# Altium footprint library PcbLib1.PcbLib: 59 footprints (part 1 of 4)
Each footprint in its own frame and in the unit in brackets; x right, y up, seen from the top. Pads: shape width x height; smd on the part's side, far side on the other; paste and mask are expansions set on the pad; w line width, h text height; cw(c..) or ccw(c..) is an arc to the next point about the centre after c.
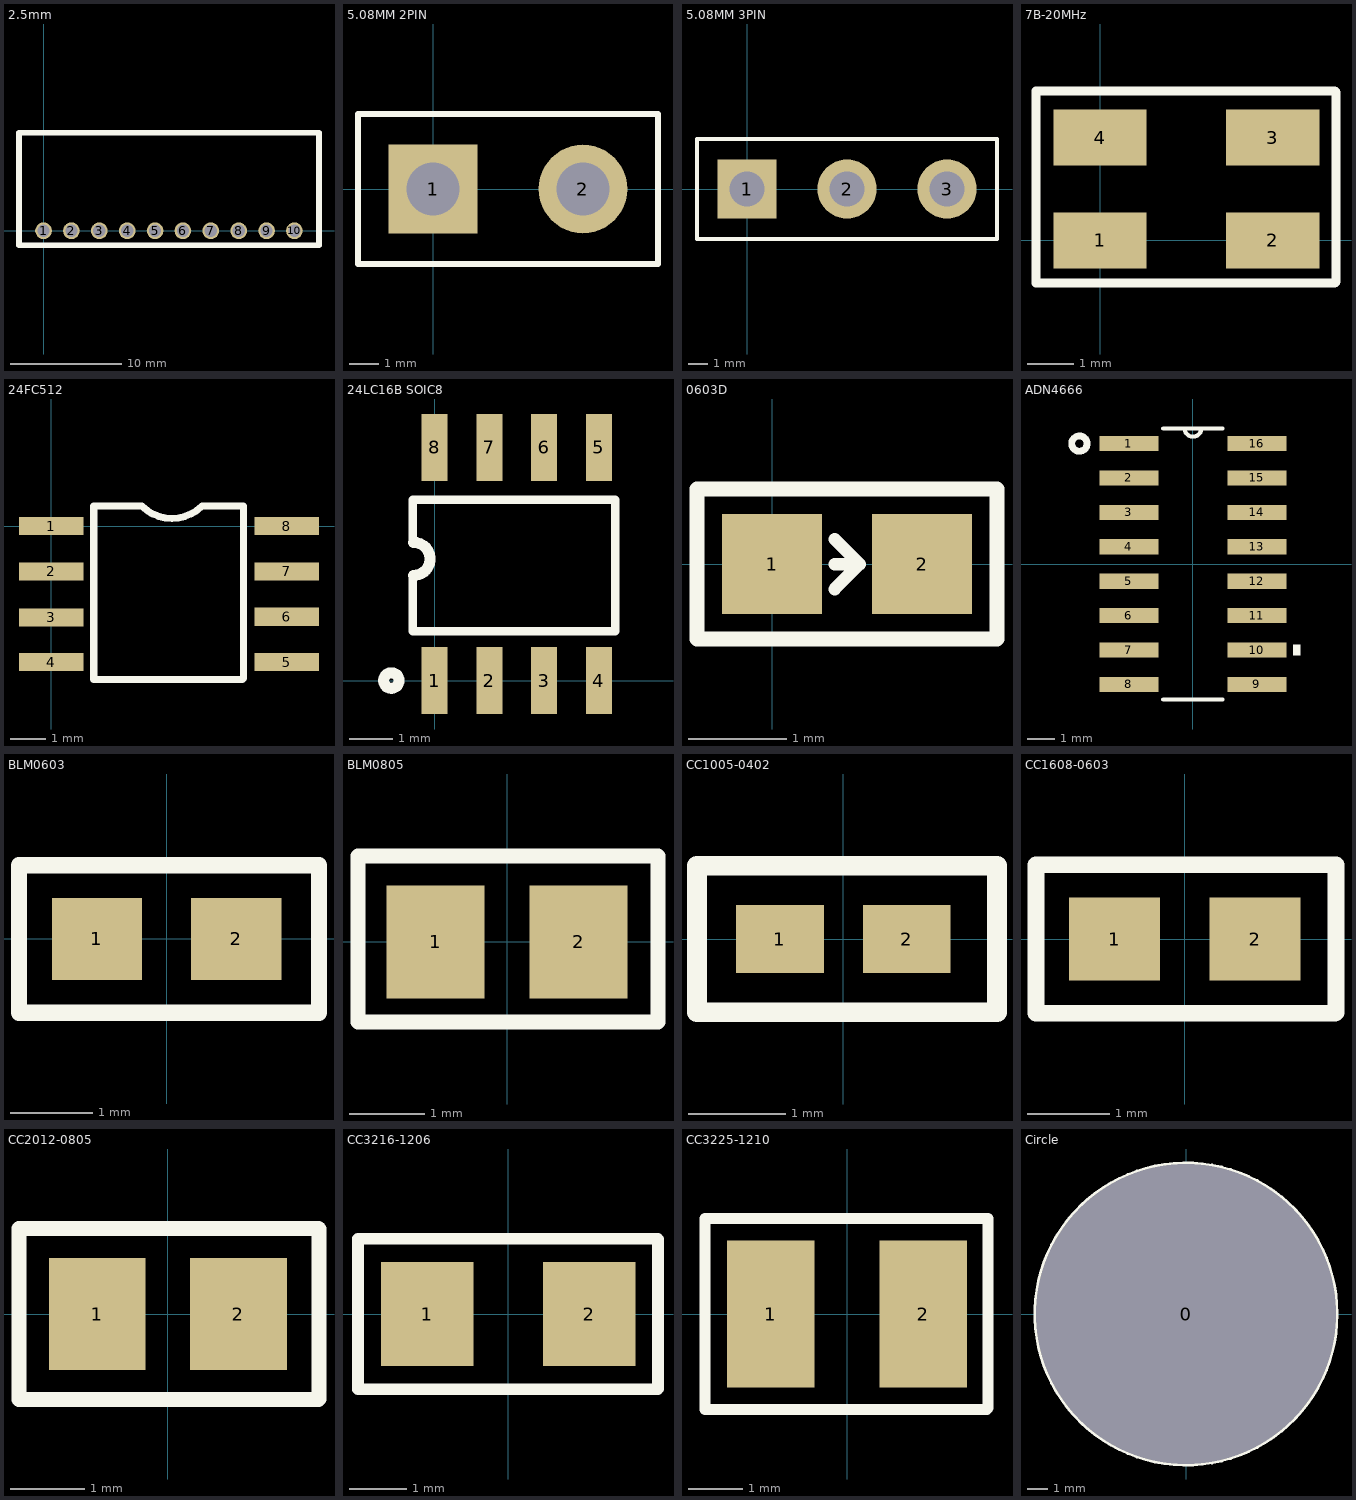
[diagram p0: the footprints below, top view; thin cyan lines are the x and y axes]

## 2.5mm [mm]
pads (10):
  round 1.5 hole 1.1: 1(0,0) 2(2.5,0) 3(5,0) 4(7.5,0) 5(10,0) 6(12.5,0) 7(15,0) 8(17.5,0) 9(20,0) 10(22.5,0)
Top Overlay:
  lines w0.508: -2.2,-1.3 24.7,-1.3 24.7,8.803 24.703,8.8 -2.2,8.8 -2.2,-1.3

## 5.08MM 2PIN [mm]
pads (2):
  rect 3x3 hole 1.8: 1(0,0)
  round 3 hole 1.8: 2(5.08,0)
Top Overlay:
  lines w0.2: -2.54,-2.54 7.62,-2.54 7.62,2.54 -2.54,2.54 -2.54,-2.54

## 5.08MM 3PIN [mm]
pads (3):
  rect 3x3 hole 1.8: 1(0,0)
  round 3 hole 1.8: 2(5.08,0) 3(10.16,0)
Top Overlay:
  lines w0.2: -2.54,-2.54 -2.54,-2.108 -2.54,2.54 12.7,2.54 12.7,-2.54 -1.956,-2.54 -2.464,-2.54 -2.54,-2.54

## 7B-20MHz [mm]
pads (4):
  rect 2x1.2 smd: 1(0,0) 2(3.7,0) 3(3.7,2.2) 4(0,2.2)
Top Overlay:
  lines w0.2: -1.372,-0.914 5.029,-0.914 5.055,-0.889 5.055,3.175 5.029,3.2 -1.372,3.2 -1.372,-0.914

## 24FC512 [mm]
pads (8):
  rect 1.8x0.51 smd: 1(0,0) 2(0,-1.27) 3(0,-2.56) 4(0,-3.81) 5(6.6,-3.81) 6(6.6,-2.54) 7(6.6,-1.27) 8(6.6,0)
Top Overlay:
  lines w0.2: 1.194,-4.293 1.194,0.559 2.542,0.559 ccw(c3.381,1.398) 4.22,0.559 5.385,0.559 5.385,-4.267 5.359,-4.293 1.194,-4.293

## 24LC16B SOIC8 [mm]
pads (8):
  rect 0.6x1.55 smd: 1(0,0) 2(1.27,0) 3(2.54,0) 4(3.81,0) 5(3.81,5.4) 6(2.54,5.4) 7(1.27,5.4) 8(0,5.4)
Top Overlay:
  circle w0.254: c-1,0 r0.18
  lines w0.2: -0.483,2.438 -0.508,2.413 -0.508,1.143 4.191,1.143 4.191,4.191 -0.508,4.191 -0.508,3.251 -0.457,3.2
  lines w0.254: -0.483,2.438 ccw(c-0.483,2.819) -0.483,3.2

## 0603D [mil]
pads (2):
  rect 40x40 smd: 1(0,0) 2(60,0)
Top Overlay:
  lines w5: 25,-10 35,0 ; 25,0 35,0 ; 25,10 35,0
  lines w6: -30,-30 90,-30 90,30 -30,30 -30,-30

## ADN4666 [mil]
pads (16):
  rect 86x22 smd: 1(-93,175) 2(-93,125) 3(-93,75) 4(-93,25) 5(-93,-25) 6(-93,-75) 7(-93,-125) 8(-93,-175) 9(93,-175) 10(93,-125) 11(93,-75) 12(93,-25) 13(93,25) 14(93,75) 15(93,125) 16(93,175)
Top Overlay:
  circle w10: c-165,175 r11.18
  region: 146,-117.5 156,-117.5 156,-132.5 146,-132.5
  lines w6: -43.07,-197 43.07,-197 ; -43.07,197 43.07,197 ; -12,197 ccw(c0,197) 12,197

## BLM0603 [mm]
pads (2):
  rect 1.1x1 smd: 1(-0.85,0) 2(0.85,0)
Top Overlay:
  lines w0.2: -1.8,-0.9 -1.8,0.9 1.332,0.9 1.858,0.9 1.858,-0.9 1.357,-0.9 -1.8,-0.9

## BLM0805 [mm]
pads (2):
  rect 1.3x1.5 smd: 1(-0.95,0) 2(0.95,0)
Top Overlay:
  lines w0.2: -1.981,-1.067 1.397,-1.067 2.007,-1.067 2.007,1.143 1.372,1.143 -1.981,1.143 -1.981,-1.067

## CC1005-0402 [mm]
pads (2):
  rect 0.9x0.7 smd: 1(-0.65,0) 2(0.65,0)
Top Overlay:
  lines w0.2: -1.5,-0.75 -1.5,0.75 1,0.75 1.575,0.75 1.575,-0.75 1,-0.75 -1.5,-0.75

## CC1608-0603 [mm]
pads (2):
  rect 1.1x1 smd: 1(-0.85,0) 2(0.85,0)
Top Overlay:
  lines w0.2: -1.8,-0.9 -1.8,0.9 1.3,0.9 1.829,0.9 1.829,-0.66 1.829,-0.889 1.818,-0.9 1.3,-0.9 -1.8,-0.9

## CC2012-0805 [mm]
pads (2):
  rect 1.3x1.5 smd: 1(-0.95,0) 2(0.95,0)
Top Overlay:
  lines w0.2: 2.025,-1.15 1.5,-1.15 -2,-1.15 -2,1.15 1.5,1.15 2.025,1.15 2.032,1.143 2.032,-1.143

## CC3216-1206 [mm]
pads (2):
  rect 1.6x1.8 smd: 1(-1.4,0) 2(1.4,0)
Top Overlay:
  lines w0.2: -2.6,-1.3 2.1,-1.3 2.586,-1.3 2.591,-1.295 2.591,1.295 2.586,1.3 2.1,1.3 -2.6,1.3 -2.6,-1.3

## CC3225-1210 [mm]
pads (2):
  rect 1.6x2.7 smd: 1(-1.4,0) 2(1.4,0)
Top Overlay:
  lines w0.2: -2.6,-1.75 -2.6,1.75 2.1,1.75 2.588,1.75 2.588,-1.725 2.563,-1.75 2.1,-1.75 -2.6,-1.75

## Circle [mm]
pads (1):
  round 15 hole 15: 0(0,0)
Top Overlay:
  circle w0.254: c0,0 r7.5